# Altium schematic symbol library LoadSwitch.SchLib: 2 symbols
Pins are listed as number, name and electrical type; pins without a type are passive.

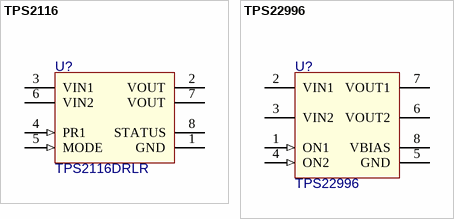
[diagram p0: symbols TPS2116 to TPS22996]

## TPS2116
designator U?  value TPS2116DRLR  (hidden comment: TPS2116)
TPS2116 1.6 V to 5.5 V, 2.5-A Low IQ Power Mux with Manual and Priority Switchover
footprint SOT-583-8 (SOT583, 8-Leads, Body 2.10x1.20mm, Pitch 0.50mm, IPC Medium Density)
pins: 1 GND (power), 2 VOUT (power) "Output power", 3 VIN1 (power) "Channel 1 input power.", 4 PR1 (in) "Selects between VIN1 and VIN2.", 5 MODE (in), 6 VIN2 (power) "Channel 2 input power.", 7 VOUT (power) "Output power", 8 STATUS "Open drain status pin. Pulled low when VIN1 is not being used."

## TPS22996
designator U?
5.5V, 4A, 14mΩ On-Resistance Dual-Channel Load Switch; Value: TPS22996
footprint SOT-563-8 (DRL0008A) (SOT-563, 8-Leads, Body 2.10x1.20mm, Pitch 0.50mm, IPC Medium Density)
pins: 1 ON1 (in) "Selects between VIN1 and VIN2.", 2 VIN1 (power) "Channel 1 input power.", 3 VIN2 (power) "Channel 2 input power.", 4 ON2 (in), 5 GND (power), 6 VOUT2 (power) "Output power", 7 VOUT1 (power) "Output power", 8 VBIAS "Channel 2 input power."